# Altium schematic symbol library processor_sitara.SchLib: 2 symbols
Pins are listed as number, name and electrical type; pins without a type are passive.

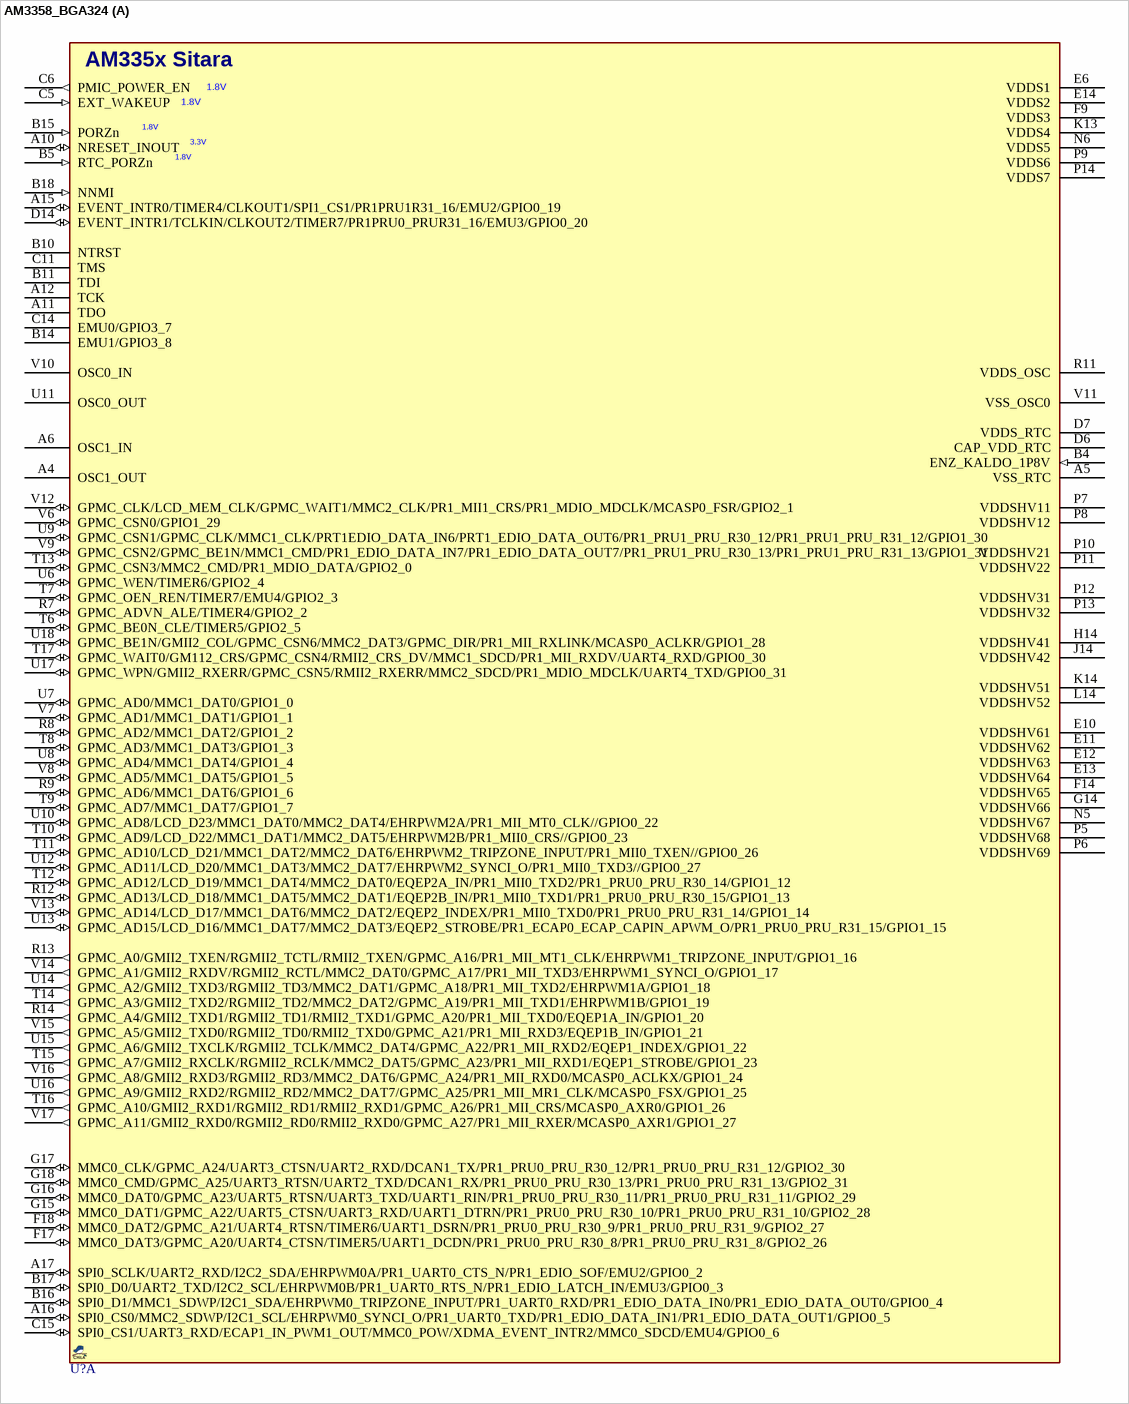
[diagram p0: symbol AM3358_BGA324]

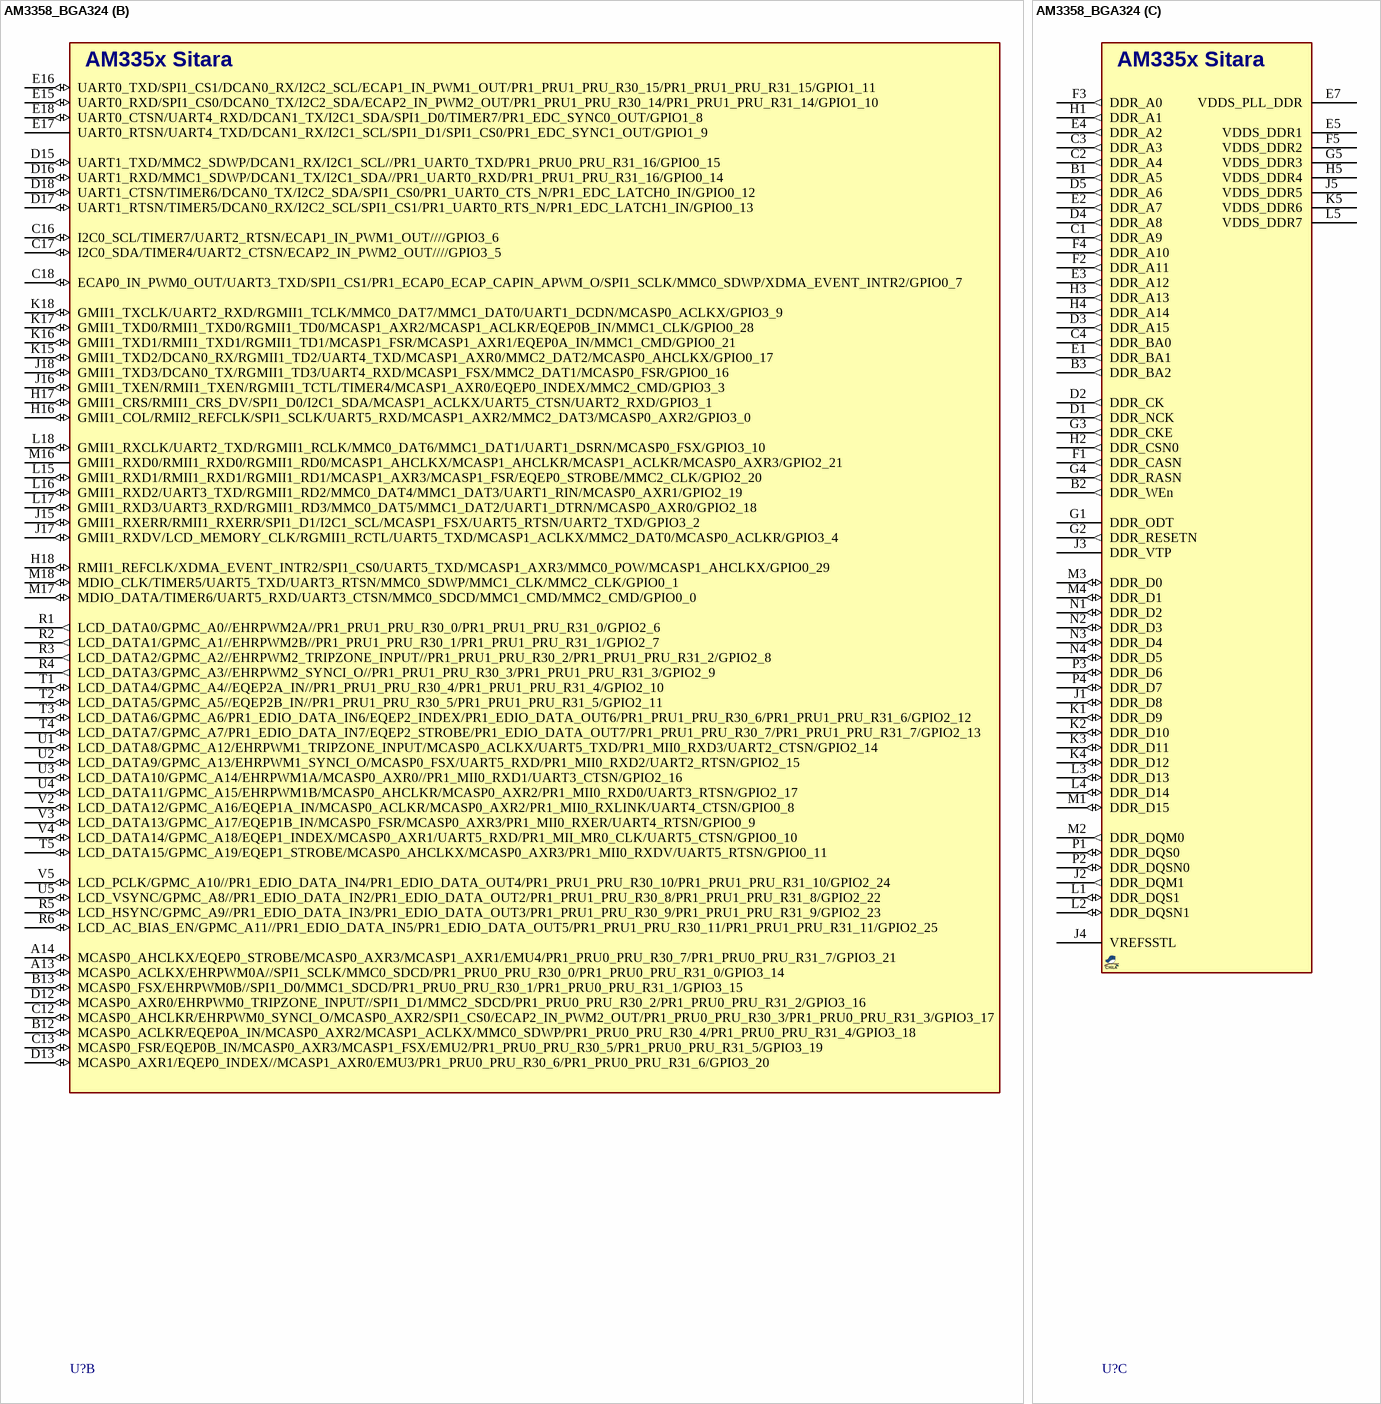
[diagram p1: symbol AM3358_BGA324]

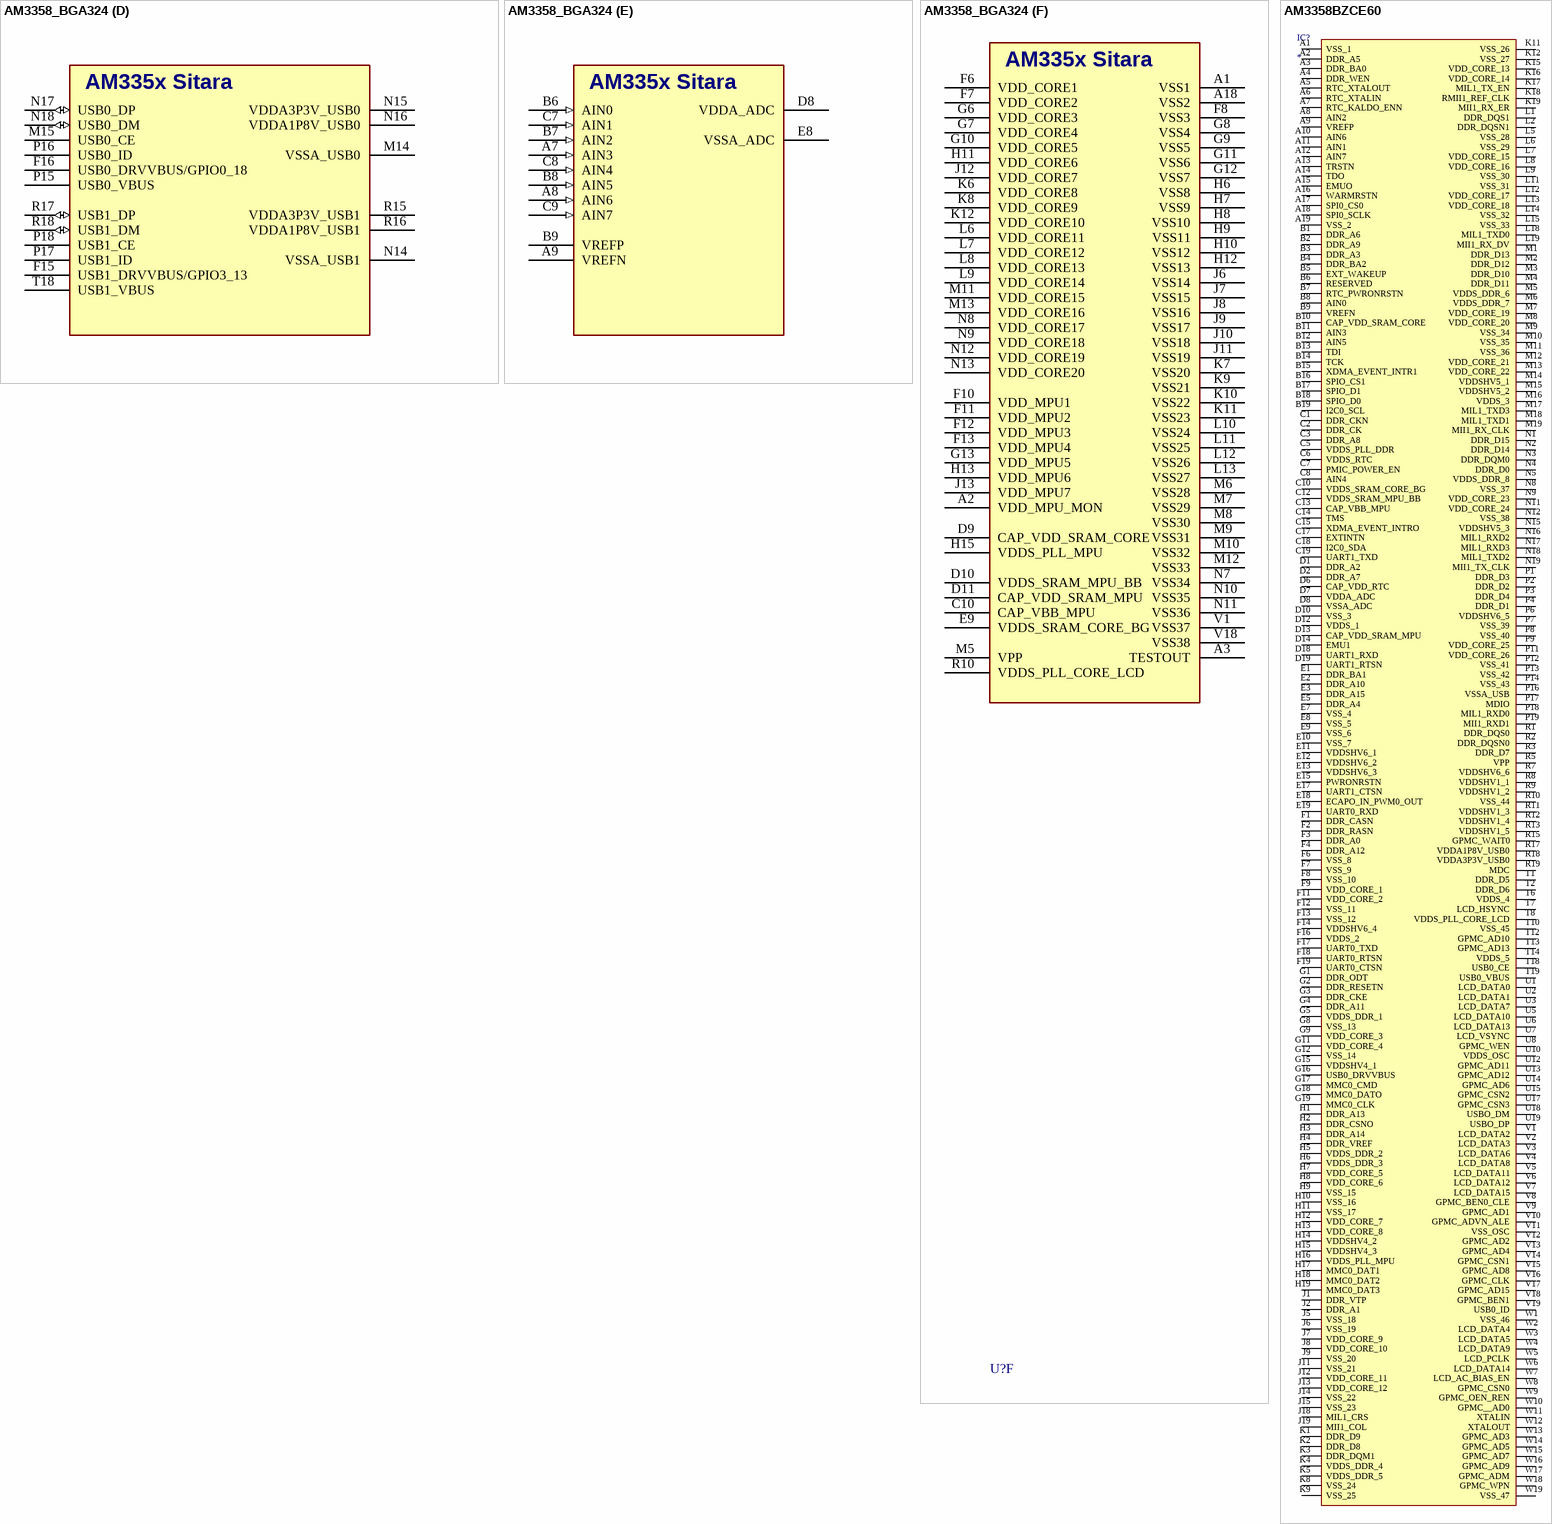
[diagram p2: symbols AM3358_BGA324 to AM3358BZCE60]

## AM3358_BGA324
designator U?, comment AM3358  (value not drawn)
IC, Cortex A8 Processor, SITARA AM335x FBGA ZCZ; MANF: TI; MANF_P#: AM3358BZCZA100; PARAM: 1GHz; PRICE: 20$; VALUE: AM3358
footprint BGA80_324_S15 (BGA, 324-Leads, CSG324, Body 15x15mm, Pitch 0.8mm, AM33XX)
part A pins: A4 OSC1_OUT, A5 VSS_RTC (power), A6 OSC1_IN, A10 NRESET_INOUT (io), A11 TDO, A12 TCK, A15 EVENT_INTR0/TIMER4/CLKOUT1/SPI1_CS1/PR1PRU1R31_16/EMU2/GPIO0_19 (io), A16 SPI0_CS0/MMC2_SDWP/I2C1_SCL/EHRPWM0_SYNCI_O/PR1_UART0_TXD/PR1_EDIO_DATA_IN1/PR1_EDIO_DATA_OUT1/GPIO0_5 (io), A17 SPI0_SCLK/UART2_RXD/I2C2_SDA/EHRPWM0A/PR1_UART0_CTS_N/PR1_EDIO_SOF/EMU2/GPIO0_2 (io), B4 ENZ_KALDO_1P8V (in), B5 RTC_PORZn (in), B10 NTRST, B11 TDI, B14 EMU1/GPIO3_8, B15 PORZn (in), B16 SPI0_D1/MMC1_SDWP/I2C1_SDA/EHRPWM0_TRIPZONE_INPUT/PR1_UART0_RXD/PR1_EDIO_DATA_IN0/PR1_EDIO_DATA_OUT0/GPIO0_4 (io), B17 SPI0_D0/UART2_TXD/I2C2_SCL/EHRPWM0B/PR1_UART0_RTS_N/PR1_EDIO_LATCH_IN/EMU3/GPIO0_3 (io), B18 NNMI (in), C5 EXT_WAKEUP (in), C6 PMIC_POWER_EN (out), C11 TMS, C14 EMU0/GPIO3_7, C15 SPI0_CS1/UART3_RXD/ECAP1_IN_PWM1_OUT/MMC0_POW/XDMA_EVENT_INTR2/MMC0_SDCD/EMU4/GPIO0_6 (io), D6 CAP_VDD_RTC (power), D7 VDDS_RTC (power), D14 EVENT_INTR1/TCLKIN/CLKOUT2/TIMER7/PR1PRU0_PRUR31_16/EMU3/GPIO0_20 (io), E6 VDDS1 (power), E10 VDDSHV61 (power), E11 VDDSHV62 (power), E12 VDDSHV63 (power), E13 VDDSHV64 (power), E14 VDDS2 (power), F9 VDDS3 (power), F14 VDDSHV65 (power), F17 MMC0_DAT3/GPMC_A20/UART4_CTSN/TIMER5/UART1_DCDN/PR1_PRU0_PRU_R30_8/PR1_PRU0_PRU_R31_8/GPIO2_26 (io), F18 MMC0_DAT2/GPMC_A21/UART4_RTSN/TIMER6/UART1_DSRN/PR1_PRU0_PRU_R30_9/PR1_PRU0_PRU_R31_9/GPIO2_27 (io), G14 VDDSHV66 (power), G15 MMC0_DAT1/GPMC_A22/UART5_CTSN/UART3_RXD/UART1_DTRN/PR1_PRU0_PRU_R30_10/PR1_PRU0_PRU_R31_10/GPIO2_28 (io), G16 MMC0_DAT0/GPMC_A23/UART5_RTSN/UART3_TXD/UART1_RIN/PR1_PRU0_PRU_R30_11/PR1_PRU0_PRU_R31_11/GPIO2_29 (io), G17 MMC0_CLK/GPMC_A24/UART3_CTSN/UART2_RXD/DCAN1_TX/PR1_PRU0_PRU_R30_12/PR1_PRU0_PRU_R31_12/GPIO2_30 (io), G18 MMC0_CMD/GPMC_A25/UART3_RTSN/UART2_TXD/DCAN1_RX/PR1_PRU0_PRU_R30_13/PR1_PRU0_PRU_R31_13/GPIO2_31 (io), H14 VDDSHV41 (power), J14 VDDSHV42 (power), K13 VDDS4 (power), K14 VDDSHV51 (power), L14 VDDSHV52 (power), N5 VDDSHV67 (power), N6 VDDS5 (power), P5 VDDSHV68 (power), P6 VDDSHV69 (power), P7 VDDSHV11 (power), P8 VDDSHV12 (power), P9 VDDS6 (power), P10 VDDSHV21 (power), P11 VDDSHV22 (power), P12 VDDSHV31 (power), P13 VDDSHV32 (power), P14 VDDS7 (power), R7 GPMC_ADVN_ALE/TIMER4/GPIO2_2 (io), R8 GPMC_AD2/MMC1_DAT2/GPIO1_2 (io), R9 GPMC_AD6/MMC1_DAT6/GPIO1_6 (io), R11 VDDS_OSC (power), R12 GPMC_AD13/LCD_D18/MMC1_DAT5/MMC2_DAT1/EQEP2B_IN/PR1_MII0_TXD1/PR1_PRU0_PRU_R30_15/GPIO1_13 (io), R13 GPMC_A0/GMII2_TXEN/RGMII2_TCTL/RMII2_TXEN/GPMC_A16/PR1_MII_MT1_CLK/EHRPWM1_TRIPZONE_INPUT/GPIO1_16 (out), R14 GPMC_A4/GMII2_TXD1/RGMII2_TD1/RMII2_TXD1/GPMC_A20/PR1_MII_TXD0/EQEP1A_IN/GPIO1_20 (out), T6 GPMC_BE0N_CLE/TIMER5/GPIO2_5 (io), T7 GPMC_OEN_REN/TIMER7/EMU4/GPIO2_3 (io), T8 GPMC_AD3/MMC1_DAT3/GPIO1_3 (io), T9 GPMC_AD7/MMC1_DAT7/GPIO1_7 (io), T10 GPMC_AD9/LCD_D22/MMC1_DAT1/MMC2_DAT5/EHRPWM2B/PR1_MII0_CRS//GPIO0_23 (io), T11 GPMC_AD10/LCD_D21/MMC1_DAT2/MMC2_DAT6/EHRPWM2_TRIPZONE_INPUT/PR1_MII0_TXEN//GPIO0_26 (io), T12 GPMC_AD12/LCD_D19/MMC1_DAT4/MMC2_DAT0/EQEP2A_IN/PR1_MII0_TXD2/PR1_PRU0_PRU_R30_14/GPIO1_12 (io), T13 GPMC_CSN3/MMC2_CMD/PR1_MDIO_DATA/GPIO2_0 (io), T14 GPMC_A3/GMII2_TXD2/RGMII2_TD2/MMC2_DAT2/GPMC_A19/PR1_MII_TXD1/EHRPWM1B/GPIO1_19 (out), T15 GPMC_A7/GMII2_RXCLK/RGMII2_RCLK/MMC2_DAT5/GPMC_A23/PR1_MII_RXD1/EQEP1_STROBE/GPIO1_23 (out), T16 GPMC_A10/GMII2_RXD1/RGMII2_RD1/RMII2_RXD1/GPMC_A26/PR1_MII_CRS/MCASP0_AXR0/GPIO1_26 (out), T17 GPMC_WAIT0/GM112_CRS/GPMC_CSN4/RMII2_CRS_DV/MMC1_SDCD/PR1_MII_RXDV/UART4_RXD/GPIO0_30 (io), U6 GPMC_WEN/TIMER6/GPIO2_4 (io), U7 GPMC_AD0/MMC1_DAT0/GPIO1_0 (io), U8 GPMC_AD4/MMC1_DAT4/GPIO1_4 (io), U9 GPMC_CSN1/GPMC_CLK/MMC1_CLK/PRT1EDIO_DATA_IN6/PRT1_EDIO_DATA_OUT6/PR1_PRU1_PRU_R30_12/PR1_PRU1_PRU_R31_12/GPIO1_30 (io), U10 GPMC_AD8/LCD_D23/MMC1_DAT0/MMC2_DAT4/EHRPWM2A/PR1_MII_MT0_CLK//GPIO0_22 (io), U11 OSC0_OUT, U12 GPMC_AD11/LCD_D20/MMC1_DAT3/MMC2_DAT7/EHRPWM2_SYNCI_O/PR1_MII0_TXD3//GPIO0_27 (io), U13 GPMC_AD15/LCD_D16/MMC1_DAT7/MMC2_DAT3/EQEP2_STROBE/PR1_ECAP0_ECAP_CAPIN_APWM_O/PR1_PRU0_PRU_R31_15/GPIO1_15 (io), U14 GPMC_A2/GMII2_TXD3/RGMII2_TD3/MMC2_DAT1/GPMC_A18/PR1_MII_TXD2/EHRPWM1A/GPIO1_18 (out), U15 GPMC_A6/GMII2_TXCLK/RGMII2_TCLK/MMC2_DAT4/GPMC_A22/PR1_MII_RXD2/EQEP1_INDEX/GPIO1_22 (out), U16 GPMC_A9/GMII2_RXD2/RGMII2_RD2/MMC2_DAT7/GPMC_A25/PR1_MII_MR1_CLK/MCASP0_FSX/GPIO1_25 (out), U17 GPMC_WPN/GMII2_RXERR/GPMC_CSN5/RMII2_RXERR/MMC2_SDCD/PR1_MDIO_MDCLK/UART4_TXD/GPIO0_31 (io), U18 GPMC_BE1N/GMII2_COL/GPMC_CSN6/MMC2_DAT3/GPMC_DIR/PR1_MII_RXLINK/MCASP0_ACLKR/GPIO1_28 (io), V6 GPMC_CSN0/GPIO1_29 (io), V7 GPMC_AD1/MMC1_DAT1/GPIO1_1 (io), V8 GPMC_AD5/MMC1_DAT5/GPIO1_5 (io), V9 GPMC_CSN2/GPMC_BE1N/MMC1_CMD/PR1_EDIO_DATA_IN7/PR1_EDIO_DATA_OUT7/PR1_PRU1_PRU_R30_13/PR1_PRU1_PRU_R31_13/GPIO1_31 (io), V10 OSC0_IN, V11 VSS_OSC0 (power), V12 GPMC_CLK/LCD_MEM_CLK/GPMC_WAIT1/MMC2_CLK/PR1_MII1_CRS/PR1_MDIO_MDCLK/MCASP0_FSR/GPIO2_1 (io), V13 GPMC_AD14/LCD_D17/MMC1_DAT6/MMC2_DAT2/EQEP2_INDEX/PR1_MII0_TXD0/PR1_PRU0_PRU_R31_14/GPIO1_14 (io), V14 GPMC_A1/GMII2_RXDV/RGMII2_RCTL/MMC2_DAT0/GPMC_A17/PR1_MII_TXD3/EHRPWM1_SYNCI_O/GPIO1_17 (out), V15 GPMC_A5/GMII2_TXD0/RGMII2_TD0/RMII2_TXD0/GPMC_A21/PR1_MII_RXD3/EQEP1B_IN/GPIO1_21 (out), V16 GPMC_A8/GMII2_RXD3/RGMII2_RD3/MMC2_DAT6/GPMC_A24/PR1_MII_RXD0/MCASP0_ACLKX/GPIO1_24 (out), V17 GPMC_A11/GMII2_RXD0/RGMII2_RD0/RMII2_RXD0/GPMC_A27/PR1_MII_RXER/MCASP0_AXR1/GPIO1_27 (out)
part B pins: A13 MCASP0_ACLKX/EHRPWM0A//SPI1_SCLK/MMC0_SDCD/PR1_PRU0_PRU_R30_0/PR1_PRU0_PRU_R31_0/GPIO3_14 (io), A14 MCASP0_AHCLKX/EQEP0_STROBE/MCASP0_AXR3/MCASP1_AXR1/EMU4/PR1_PRU0_PRU_R30_7/PR1_PRU0_PRU_R31_7/GPIO3_21 (io), B12 MCASP0_ACLKR/EQEP0A_IN/MCASP0_AXR2/MCASP1_ACLKX/MMC0_SDWP/PR1_PRU0_PRU_R30_4/PR1_PRU0_PRU_R31_4/GPIO3_18 (io), B13 MCASP0_FSX/EHRPWM0B//SPI1_D0/MMC1_SDCD/PR1_PRU0_PRU_R30_1/PR1_PRU0_PRU_R31_1/GPIO3_15 (io), C12 MCASP0_AHCLKR/EHRPWM0_SYNCI_O/MCASP0_AXR2/SPI1_CS0/ECAP2_IN_PWM2_OUT/PR1_PRU0_PRU_R30_3/PR1_PRU0_PRU_R31_3/GPIO3_17 (io), C13 MCASP0_FSR/EQEP0B_IN/MCASP0_AXR3/MCASP1_FSX/EMU2/PR1_PRU0_PRU_R30_5/PR1_PRU0_PRU_R31_5/GPIO3_19 (io), C16 I2C0_SCL/TIMER7/UART2_RTSN/ECAP1_IN_PWM1_OUT////GPIO3_6 (io), C17 I2C0_SDA/TIMER4/UART2_CTSN/ECAP2_IN_PWM2_OUT////GPIO3_5 (io), C18 ECAP0_IN_PWM0_OUT/UART3_TXD/SPI1_CS1/PR1_ECAP0_ECAP_CAPIN_APWM_O/SPI1_SCLK/MMC0_SDWP/XDMA_EVENT_INTR2/GPIO0_7 (io), D12 MCASP0_AXR0/EHRPWM0_TRIPZONE_INPUT//SPI1_D1/MMC2_SDCD/PR1_PRU0_PRU_R30_2/PR1_PRU0_PRU_R31_2/GPIO3_16 (io), D13 MCASP0_AXR1/EQEP0_INDEX//MCASP1_AXR0/EMU3/PR1_PRU0_PRU_R30_6/PR1_PRU0_PRU_R31_6/GPIO3_20 (io), D15 UART1_TXD/MMC2_SDWP/DCAN1_RX/I2C1_SCL//PR1_UART0_TXD/PR1_PRU0_PRU_R31_16/GPIO0_15 (io), D16 UART1_RXD/MMC1_SDWP/DCAN1_TX/I2C1_SDA//PR1_UART0_RXD/PR1_PRU1_PRU_R31_16/GPIO0_14 (io), D17 UART1_RTSN/TIMER5/DCAN0_RX/I2C2_SCL/SPI1_CS1/PR1_UART0_RTS_N/PR1_EDC_LATCH1_IN/GPIO0_13 (io), D18 UART1_CTSN/TIMER6/DCAN0_TX/I2C2_SDA/SPI1_CS0/PR1_UART0_CTS_N/PR1_EDC_LATCH0_IN/GPIO0_12 (io), E15 UART0_RXD/SPI1_CS0/DCAN0_TX/I2C2_SDA/ECAP2_IN_PWM2_OUT/PR1_PRU1_PRU_R30_14/PR1_PRU1_PRU_R31_14/GPIO1_10 (io), E16 UART0_TXD/SPI1_CS1/DCAN0_RX/I2C2_SCL/ECAP1_IN_PWM1_OUT/PR1_PRU1_PRU_R30_15/PR1_PRU1_PRU_R31_15/GPIO1_11 (io), E17 UART0_RTSN/UART4_TXD/DCAN1_RX/I2C1_SCL/SPI1_D1/SPI1_CS0/PR1_EDC_SYNC1_OUT/GPIO1_9, E18 UART0_CTSN/UART4_RXD/DCAN1_TX/I2C1_SDA/SPI1_D0/TIMER7/PR1_EDC_SYNC0_OUT/GPIO1_8 (io), H16 GMII1_COL/RMII2_REFCLK/SPI1_SCLK/UART5_RXD/MCASP1_AXR2/MMC2_DAT3/MCASP0_AXR2/GPIO3_0 (io), H17 GMII1_CRS/RMII1_CRS_DV/SPI1_D0/I2C1_SDA/MCASP1_ACLKX/UART5_CTSN/UART2_RXD/GPIO3_1 (io), H18 RMII1_REFCLK/XDMA_EVENT_INTR2/SPI1_CS0/UART5_TXD/MCASP1_AXR3/MMC0_POW/MCASP1_AHCLKX/GPIO0_29 (io), J15 GMII1_RXERR/RMII1_RXERR/SPI1_D1/I2C1_SCL/MCASP1_FSX/UART5_RTSN/UART2_TXD/GPIO3_2 (io), J16 GMII1_TXEN/RMII1_TXEN/RGMII1_TCTL/TIMER4/MCASP1_AXR0/EQEP0_INDEX/MMC2_CMD/GPIO3_3 (io), J17 GMII1_RXDV/LCD_MEMORY_CLK/RGMII1_RCTL/UART5_TXD/MCASP1_ACLKX/MMC2_DAT0/MCASP0_ACLKR/GPIO3_4 (io), J18 GMII1_TXD3/DCAN0_TX/RGMII1_TD3/UART4_RXD/MCASP1_FSX/MMC2_DAT1/MCASP0_FSR/GPIO0_16 (io), K15 GMII1_TXD2/DCAN0_RX/RGMII1_TD2/UART4_TXD/MCASP1_AXR0/MMC2_DAT2/MCASP0_AHCLKX/GPIO0_17 (io), K16 GMII1_TXD1/RMII1_TXD1/RGMII1_TD1/MCASP1_FSR/MCASP1_AXR1/EQEP0A_IN/MMC1_CMD/GPIO0_21 (io), K17 GMII1_TXD0/RMII1_TXD0/RGMII1_TD0/MCASP1_AXR2/MCASP1_ACLKR/EQEP0B_IN/MMC1_CLK/GPIO0_28 (io), K18 GMII1_TXCLK/UART2_RXD/RGMII1_TCLK/MMC0_DAT7/MMC1_DAT0/UART1_DCDN/MCASP0_ACLKX/GPIO3_9 (io), L15 GMII1_RXD1/RMII1_RXD1/RGMII1_RD1/MCASP1_AXR3/MCASP1_FSR/EQEP0_STROBE/MMC2_CLK/GPIO2_20 (io), L16 GMII1_RXD2/UART3_TXD/RGMII1_RD2/MMC0_DAT4/MMC1_DAT3/UART1_RIN/MCASP0_AXR1/GPIO2_19 (io), L17 GMII1_RXD3/UART3_RXD/RGMII1_RD3/MMC0_DAT5/MMC1_DAT2/UART1_DTRN/MCASP0_AXR0/GPIO2_18 (io), L18 GMII1_RXCLK/UART2_TXD/RGMII1_RCLK/MMC0_DAT6/MMC1_DAT1/UART1_DSRN/MCASP0_FSX/GPIO3_10 (io), M16 GMII1_RXD0/RMII1_RXD0/RGMII1_RD0/MCASP1_AHCLKX/MCASP1_AHCLKR/MCASP1_ACLKR/MCASP0_AXR3/GPIO2_21, M17 MDIO_DATA/TIMER6/UART5_RXD/UART3_CTSN/MMC0_SDCD/MMC1_CMD/MMC2_CMD/GPIO0_0 (io), M18 MDIO_CLK/TIMER5/UART5_TXD/UART3_RTSN/MMC0_SDWP/MMC1_CLK/MMC2_CLK/GPIO0_1 (io), R1 LCD_DATA0/GPMC_A0//EHRPWM2A//PR1_PRU1_PRU_R30_0/PR1_PRU1_PRU_R31_0/GPIO2_6 (out), R2 LCD_DATA1/GPMC_A1//EHRPWM2B//PR1_PRU1_PRU_R30_1/PR1_PRU1_PRU_R31_1/GPIO2_7 (out), R3 LCD_DATA2/GPMC_A2//EHRPWM2_TRIPZONE_INPUT//PR1_PRU1_PRU_R30_2/PR1_PRU1_PRU_R31_2/GPIO2_8 (out), R4 LCD_DATA3/GPMC_A3//EHRPWM2_SYNCI_O//PR1_PRU1_PRU_R30_3/PR1_PRU1_PRU_R31_3/GPIO2_9 (out), R5 LCD_HSYNC/GPMC_A9//PR1_EDIO_DATA_IN3/PR1_EDIO_DATA_OUT3/PR1_PRU1_PRU_R30_9/PR1_PRU1_PRU_R31_9/GPIO2_23 (io), R6 LCD_AC_BIAS_EN/GPMC_A11//PR1_EDIO_DATA_IN5/PR1_EDIO_DATA_OUT5/PR1_PRU1_PRU_R30_11/PR1_PRU1_PRU_R31_11/GPIO2_25 (io), T1 LCD_DATA4/GPMC_A4//EQEP2A_IN//PR1_PRU1_PRU_R30_4/PR1_PRU1_PRU_R31_4/GPIO2_10 (io), T2 LCD_DATA5/GPMC_A5//EQEP2B_IN//PR1_PRU1_PRU_R30_5/PR1_PRU1_PRU_R31_5/GPIO2_11 (io), T3 LCD_DATA6/GPMC_A6/PR1_EDIO_DATA_IN6/EQEP2_INDEX/PR1_EDIO_DATA_OUT6/PR1_PRU1_PRU_R30_6/PR1_PRU1_PRU_R31_6/GPIO2_12 (io), T4 LCD_DATA7/GPMC_A7/PR1_EDIO_DATA_IN7/EQEP2_STROBE/PR1_EDIO_DATA_OUT7/PR1_PRU1_PRU_R30_7/PR1_PRU1_PRU_R31_7/GPIO2_13 (io), T5 LCD_DATA15/GPMC_A19/EQEP1_STROBE/MCASP0_AHCLKX/MCASP0_AXR3/PR1_MII0_RXDV/UART5_RTSN/GPIO0_11 (io), U1 LCD_DATA8/GPMC_A12/EHRPWM1_TRIPZONE_INPUT/MCASP0_ACLKX/UART5_TXD/PR1_MII0_RXD3/UART2_CTSN/GPIO2_14 (io), U2 LCD_DATA9/GPMC_A13/EHRPWM1_SYNCI_O/MCASP0_FSX/UART5_RXD/PR1_MII0_RXD2/UART2_RTSN/GPIO2_15 (io), U3 LCD_DATA10/GPMC_A14/EHRPWM1A/MCASP0_AXR0//PR1_MII0_RXD1/UART3_CTSN/GPIO2_16 (io), U4 LCD_DATA11/GPMC_A15/EHRPWM1B/MCASP0_AHCLKR/MCASP0_AXR2/PR1_MII0_RXD0/UART3_RTSN/GPIO2_17 (io), U5 LCD_VSYNC/GPMC_A8//PR1_EDIO_DATA_IN2/PR1_EDIO_DATA_OUT2/PR1_PRU1_PRU_R30_8/PR1_PRU1_PRU_R31_8/GPIO2_22 (io), V2 LCD_DATA12/GPMC_A16/EQEP1A_IN/MCASP0_ACLKR/MCASP0_AXR2/PR1_MII0_RXLINK/UART4_CTSN/GPIO0_8 (io), V3 LCD_DATA13/GPMC_A17/EQEP1B_IN/MCASP0_FSR/MCASP0_AXR3/PR1_MII0_RXER/UART4_RTSN/GPIO0_9 (io), V4 LCD_DATA14/GPMC_A18/EQEP1_INDEX/MCASP0_AXR1/UART5_RXD/PR1_MII_MR0_CLK/UART5_CTSN/GPIO0_10 (io), V5 LCD_PCLK/GPMC_A10//PR1_EDIO_DATA_IN4/PR1_EDIO_DATA_OUT4/PR1_PRU1_PRU_R30_10/PR1_PRU1_PRU_R31_10/GPIO2_24 (io)
part C pins: B1 DDR_A5 (out), B2 DDR_WEn (out), B3 DDR_BA2 (out), C1 DDR_A9 (out), C2 DDR_A4 (out), C3 DDR_A3 (out), C4 DDR_BA0 (out), D1 DDR_NCK (out), D2 DDR_CK (out), D3 DDR_A15 (out), D4 DDR_A8 (out), D5 DDR_A6 (out), E1 DDR_BA1 (out), E2 DDR_A7 (out), E3 DDR_A12 (out), E4 DDR_A2 (out), E5 VDDS_DDR1 (power), E7 VDDS_PLL_DDR (power), F1 DDR_CASN (out), F2 DDR_A11 (out), F3 DDR_A0 (out), F4 DDR_A10 (out), F5 VDDS_DDR2 (power), G1 DDR_ODT, G2 DDR_RESETN (out), G3 DDR_CKE (out), G4 DDR_RASN (out), G5 VDDS_DDR3 (power), H1 DDR_A1 (out), H2 DDR_CSN0 (out), H3 DDR_A13 (out), H4 DDR_A14 (out), H5 VDDS_DDR4 (power), J1 DDR_D8 (io), J2 DDR_DQM1 (out), J3 DDR_VTP, J4 VREFSSTL, J5 VDDS_DDR5 (power), K1 DDR_D9 (io), K2 DDR_D10 (io), K3 DDR_D11 (io), K4 DDR_D12 (io), K5 VDDS_DDR6 (power), L1 DDR_DQS1 (io), L2 DDR_DQSN1 (io), L3 DDR_D13 (io), L4 DDR_D14 (io), L5 VDDS_DDR7 (power), M1 DDR_D15 (io), M2 DDR_DQM0 (out), M3 DDR_D0 (io), M4 DDR_D1 (io), N1 DDR_D2 (io), N2 DDR_D3 (io), N3 DDR_D4 (io), N4 DDR_D5 (io), P1 DDR_DQS0 (io), P2 DDR_DQSN0 (io), P3 DDR_D6 (io), P4 DDR_D7 (io)
part D pins: F15 USB1_DRVVBUS/GPIO3_13, F16 USB0_DRVVBUS/GPIO0_18, M14 VSSA_USB0 (power), M15 USB0_CE, N14 VSSA_USB1 (power), N15 VDDA3P3V_USB0 (power), N16 VDDA1P8V_USB0 (power), N17 USB0_DP (io), N18 USB0_DM (io), P15 USB0_VBUS, P16 USB0_ID, P17 USB1_ID, P18 USB1_CE, R15 VDDA3P3V_USB1 (power), R16 VDDA1P8V_USB1 (power), R17 USB1_DP (io), R18 USB1_DM (io), T18 USB1_VBUS
part E pins: A7 AIN3 (in), A8 AIN6 (in), A9 VREFN, B6 AIN0 (in), B7 AIN2 (in), B8 AIN5 (in), B9 VREFP, C7 AIN1 (in), C8 AIN4 (in), C9 AIN7 (in), D8 VDDA_ADC (power), E8 VSSA_ADC (power)
part F pins: A1 VSS1 (power), A2 VDD_MPU_MON, A3 TESTOUT, A18 VSS2 (power), C10 CAP_VBB_MPU, D9 CAP_VDD_SRAM_CORE (power), D10 VDDS_SRAM_MPU_BB (power), D11 CAP_VDD_SRAM_MPU (power), E9 VDDS_SRAM_CORE_BG (power), F6 VDD_CORE1 (power), F7 VDD_CORE2 (power), F8 VSS3 (power), F10 VDD_MPU1 (power), F11 VDD_MPU2 (power), F12 VDD_MPU3 (power), F13 VDD_MPU4 (power), G6 VDD_CORE3 (power), G7 VDD_CORE4 (power), G8 VSS4 (power), G9 VSS5 (power), G10 VDD_CORE5 (power), G11 VSS6 (power), G12 VSS7 (power), G13 VDD_MPU5 (power), H6 VSS8 (power), H7 VSS9 (power), H8 VSS10 (power), H9 VSS11 (power), H10 VSS12 (power), H11 VDD_CORE6 (power), H12 VSS13 (power), H13 VDD_MPU6 (power), H15 VDDS_PLL_MPU (power), J6 VSS14 (power), J7 VSS15 (power), J8 VSS16 (power), J9 VSS17 (power), J10 VSS18 (power), J11 VSS19 (power), J12 VDD_CORE7 (power), J13 VDD_MPU7 (power), K6 VDD_CORE8 (power), K7 VSS20 (power), K8 VDD_CORE9 (power), K9 VSS21 (power), K10 VSS22 (power), K11 VSS23 (power), K12 VDD_CORE10 (power), L6 VDD_CORE11 (power), L7 VDD_CORE12 (power), L8 VDD_CORE13 (power), L9 VDD_CORE14 (power), L10 VSS24 (power), L11 VSS25 (power), L12 VSS26 (power), L13 VSS27 (power), M5 VPP, M6 VSS28 (power), M7 VSS29 (power), M8 VSS30 (power), M9 VSS31 (power), M10 VSS32 (power), M11 VDD_CORE15 (power), M12 VSS33 (power), M13 VDD_CORE16 (power), N7 VSS34 (power), N8 VDD_CORE17 (power), N9 VDD_CORE18 (power), N10 VSS35 (power), N11 VSS36 (power), N12 VDD_CORE19 (power), N13 VDD_CORE20 (power), R10 VDDS_PLL_CORE_LCD (power), V1 VSS37 (power), V18 VSS38 (power)
part A text: AM335x Sitara; 1.8V; 3.3V
part B text: AM335x Sitara
part C text: AM335x Sitara
part D text: AM335x Sitara
part E text: AM335x Sitara
part F text: AM335x Sitara

## AM3358BZCE60
designator IC?
Integrated Circuit; Manufacturer_Name: Texas Instruments; Manufacturer_Part_Number: AM3358BZCE60; Datasheet Link: http://www.ti.com/lit/ds/symlink/am3358.pdf; Height: 1.3mm; Mouser Part Number: 595-AM3358BZCE60; Mouser Price/Stock: https://www.mouser.com/Search/Refine.aspx?Keyword=595-AM3358BZCE60
footprint BGA65_298_13X13 (BGA-298 ZCE, 0.65mm pitch, 13x13x1.3mm)
pins: A1 VSS_1, A2 DDR_A5, A3 DDR_BA0, A4 DDR_WEN, A5 RTC_XTALOUT, A6 RTC_XTALIN, A7 RTC_KALDO_ENN, A8 AIN2, A9 VREFP, A10 AIN6, A11 AIN1, A12 AIN7, A13 TRSTN, A14 TDO, A15 EMUO, A16 WARMRSTN, A17 SPI0_CS0, A18 SPI0_SCLK, A19 VSS_2, B1 DDR_A6, B2 DDR_A9, B3 DDR_A3, B4 DDR_BA2, B5 EXT_WAKEUP, B6 RESERVED, B7 RTC_PWRONRSTN, B8 AIN0, B9 VREFN, B10 CAP_VDD_SRAM_CORE, B11 AIN3, B12 AIN5, B13 TDI, B14 TCK, B15 XDMA_EVENT_INTR1, B16 SPIO_CS1, B17 SPIO_D1, B18 SPIO_D0, B19 I2C0_SCL, C1 DDR_CKN, C2 DDR_CK, C3 DDR_A8, C5 VDDS_PLL_DDR, C6 VDDS_RTC, C7 PMIC_POWER_EN, C8 AIN4, C10 VDDS_SRAM_CORE_BG, C12 VDDS_SRAM_MPU_BB, C13 CAP_VBB_MPU, C14 TMS, C15 XDMA_EVENT_INTRO, C17 EXTINTN, C18 I2C0_SDA, C19 UART1_TXD, D1 DDR_A2, D2 DDR_A7, D6 CAP_VDD_RTC, D7 VDDA_ADC, D8 VSSA_ADC, D10 VSS_3, D12 VDDS_1, D13 CAP_VDD_SRAM_MPU, D14 EMU1, D18 UART1_RXD, D19 UART1_RTSN, E1 DDR_BA1, E2 DDR_A10, E3 DDR_A15, E5 DDR_A4, E7 VSS_4, E8 VSS_5, E9 VSS_6, E10 VSS_7, E11 VDDSHV6_1, E12 VDDSHV6_2, E13 VDDSHV6_3, E15 PWRONRSTN, E17 UART1_CTSN, E18 ECAPO_IN_PWM0_OUT, E19 UART0_RXD, F1 DDR_CASN, F2 DDR_RASN, F3 DDR_A0, F4 DDR_A12, F6 VSS_8, F7 VSS_9, F8 VSS_10, F9 VDD_CORE_1, F11 VDD_CORE_2, F12 VSS_11, F13 VSS_12, F14 VDDSHV6_4, F16 VDDS_2, F17 UART0_TXD, F18 UART0_RTSN, F19 UART0_CTSN, G1 DDR_ODT, G2 DDR_RESETN, G3 DDR_CKE, G4 DDR_A11, G5 VDDS_DDR_1, G8 VSS_13, G9 VDD_CORE_3, G11 VDD_CORE_4, G12 VSS_14, G15 VDDSHV4_1, G16 USB0_DRVVBUS, G17 MMC0_CMD, G18 MMC0_DATO, G19 MMC0_CLK, H1 DDR_A13, H2 DDR_CSNO, H3 DDR_A14, H4 DDR_VREF, H5 VDDS_DDR_2, H6 VDDS_DDR_3, H7 VDD_CORE_5, H8 VDD_CORE_6, H9 VSS_15, H10 VSS_16, H11 VSS_17, H12 VDD_CORE_7, H13 VDD_CORE_8, H14 VDDSHV4_2, H15 VDDSHV4_3, H16 VDDS_PLL_MPU, H17 MMC0_DAT1, H18 MMC0_DAT2, H19 MMC0_DAT3, J1 DDR_VTP, J2 DDR_A1, J5 VSS_18, J6 VSS_19, J7 VDD_CORE_9, J8 VDD_CORE_10, J9 VSS_20, J11 VSS_21, J12 VDD_CORE_11, J13 VDD_CORE_12, J14 VSS_22, J15 VSS_23, J18 MIL1_CRS, J19 MII1_COL, K1 DDR_D9, K2 DDR_D8, K3 DDR_DQM1, K4 VDDS_DDR_4, K5 VDDS_DDR_5, K8 VSS_24, K9 VSS_25, K11 VSS_26, K12 VSS_27, K15 VDD_CORE_13, K16 VDD_CORE_14, K17 MIL1_TX_EN, K18 RMII1_REF_CLK, K19 MII1_RX_ER, L1 DDR_DQS1, L2 DDR_DQSN1, L5 VSS_28, L6 VSS_29, L7 VDD_CORE_15, L8 VDD_CORE_16, L9 VSS_30, L11 VSS_31, L12 VDD_CORE_17, L13 VDD_CORE_18, L14 VSS_32, L15 VSS_33, L18 MIL1_TXD0, L19 MII1_RX_DV, M1 DDR_D13, M2 DDR_D12, M3 DDR_D10, M4 DDR_D11, M5 VDDS_DDR_6, M6 VDDS_DDR_7, M7 VDD_CORE_19, M8 VDD_CORE_20, M9 VSS_34, M10 VSS_35, M11 VSS_36, M12 VDD_CORE_21, M13 VDD_CORE_22, M14 VDDSHV5_1, M15 VDDSHV5_2, M16 VDDS_3, M17 MIL1_TXD3, M18 MIL1_TXD1, M19 MII1_RX_CLK, N1 DDR_D15, N2 DDR_D14, N3 DDR_DQM0, N4 DDR_D0, N5 VDDS_DDR_8, N8 VSS_37, N9 VDD_CORE_23, N11 VDD_CORE_24, N12 VSS_38, N15 VDDSHV5_3, N16 MIL1_RXD2, N17 MIL1_RXD3, N18 MIL1_TXD2, N19 MII1_TX_CLK, P1 DDR_D3, P2 DDR_D2, P3 DDR_D4, P4 DDR_D1, P6 VDDSHV6_5, P7 VSS_39, P8 VSS_40, P9 VDD_CORE_25, P11 VDD_CORE_26, P12 VSS_41, P13 VSS_42, P14 VSS_43, P16 VSSA_USB, P17 MDIO, P18 MIL1_RXD0, P19 MII1_RXD1, R1 DDR_DQS0, R2 DDR_DQSN0, R3 DDR_D7, R5 VPP, R7 VDDSHV6_6, R8 VDDSHV1_1, R9 VDDSHV1_2, R10 VSS_44, R11 VDDSHV1_3, R12 VDDSHV1_4, R13 VDDSHV1_5, R15 GPMC_WAIT0, R17 VDDA1P8V_USB0, R18 VDDA3P3V_USB0, R19 MDC, T1 DDR_D5, T2 DDR_D6, T6 VDDS_4, T7 LCD_HSYNC, T8 VDDS_PLL_CORE_LCD, T10 VSS_45, T12 GPMC_AD10, T13 GPMC_AD13, T14 VDDS_5, T18 USB0_CE, T19 USB0_VBUS, U1 LCD_DATA0, U2 LCD_DATA1, U3 LCD_DATA7, U5 LCD_DATA10, U6 LCD_DATA13, U7 LCD_VSYNC, U8 GPMC_WEN, U10 VDDS_OSC, U12 GPMC_AD11, U13 GPMC_AD12, U14 GPMC_AD6, U15 GPMC_CSN2, U17 GPMC_CSN3, U18 USBO_DM, U19 USBO_DP, V1 LCD_DATA2, V2 LCD_DATA3, V3 LCD_DATA6, V4 LCD_DATA8, V5 LCD_DATA11, V6 LCD_DATA12, V7 LCD_DATA15, V8 GPMC_BEN0_CLE, V9 GPMC_AD1, V10 GPMC_ADVN_ALE, V11 VSS_OSC, V12 GPMC_AD2, V13 GPMC_AD4, V14 GPMC_CSN1, V15 GPMC_AD8, V16 GPMC_CLK, V17 GPMC_AD15, V18 GPMC_BEN1, V19 USB0_ID, W1 VSS_46, W2 LCD_DATA4, W3 LCD_DATA5, W4 LCD_DATA9, W5 LCD_PCLK, W6 LCD_DATA14, W7 LCD_AC_BIAS_EN, W8 GPMC_CSN0, W9 GPMC_OEN_REN, W10 GPMC__AD0, W11 XTALIN, W12 XTALOUT, W13 GPMC_AD3, W14 GPMC_AD5, W15 GPMC_AD7, W16 GPMC_AD9, W17 GPMC_ADM, W18 GPMC_WPN, W19 VSS_47